# Altium schematic symbol library MEBot.SchLib: 69 symbols
Pins are listed as number, name and electrical type; pins without a type are passive.

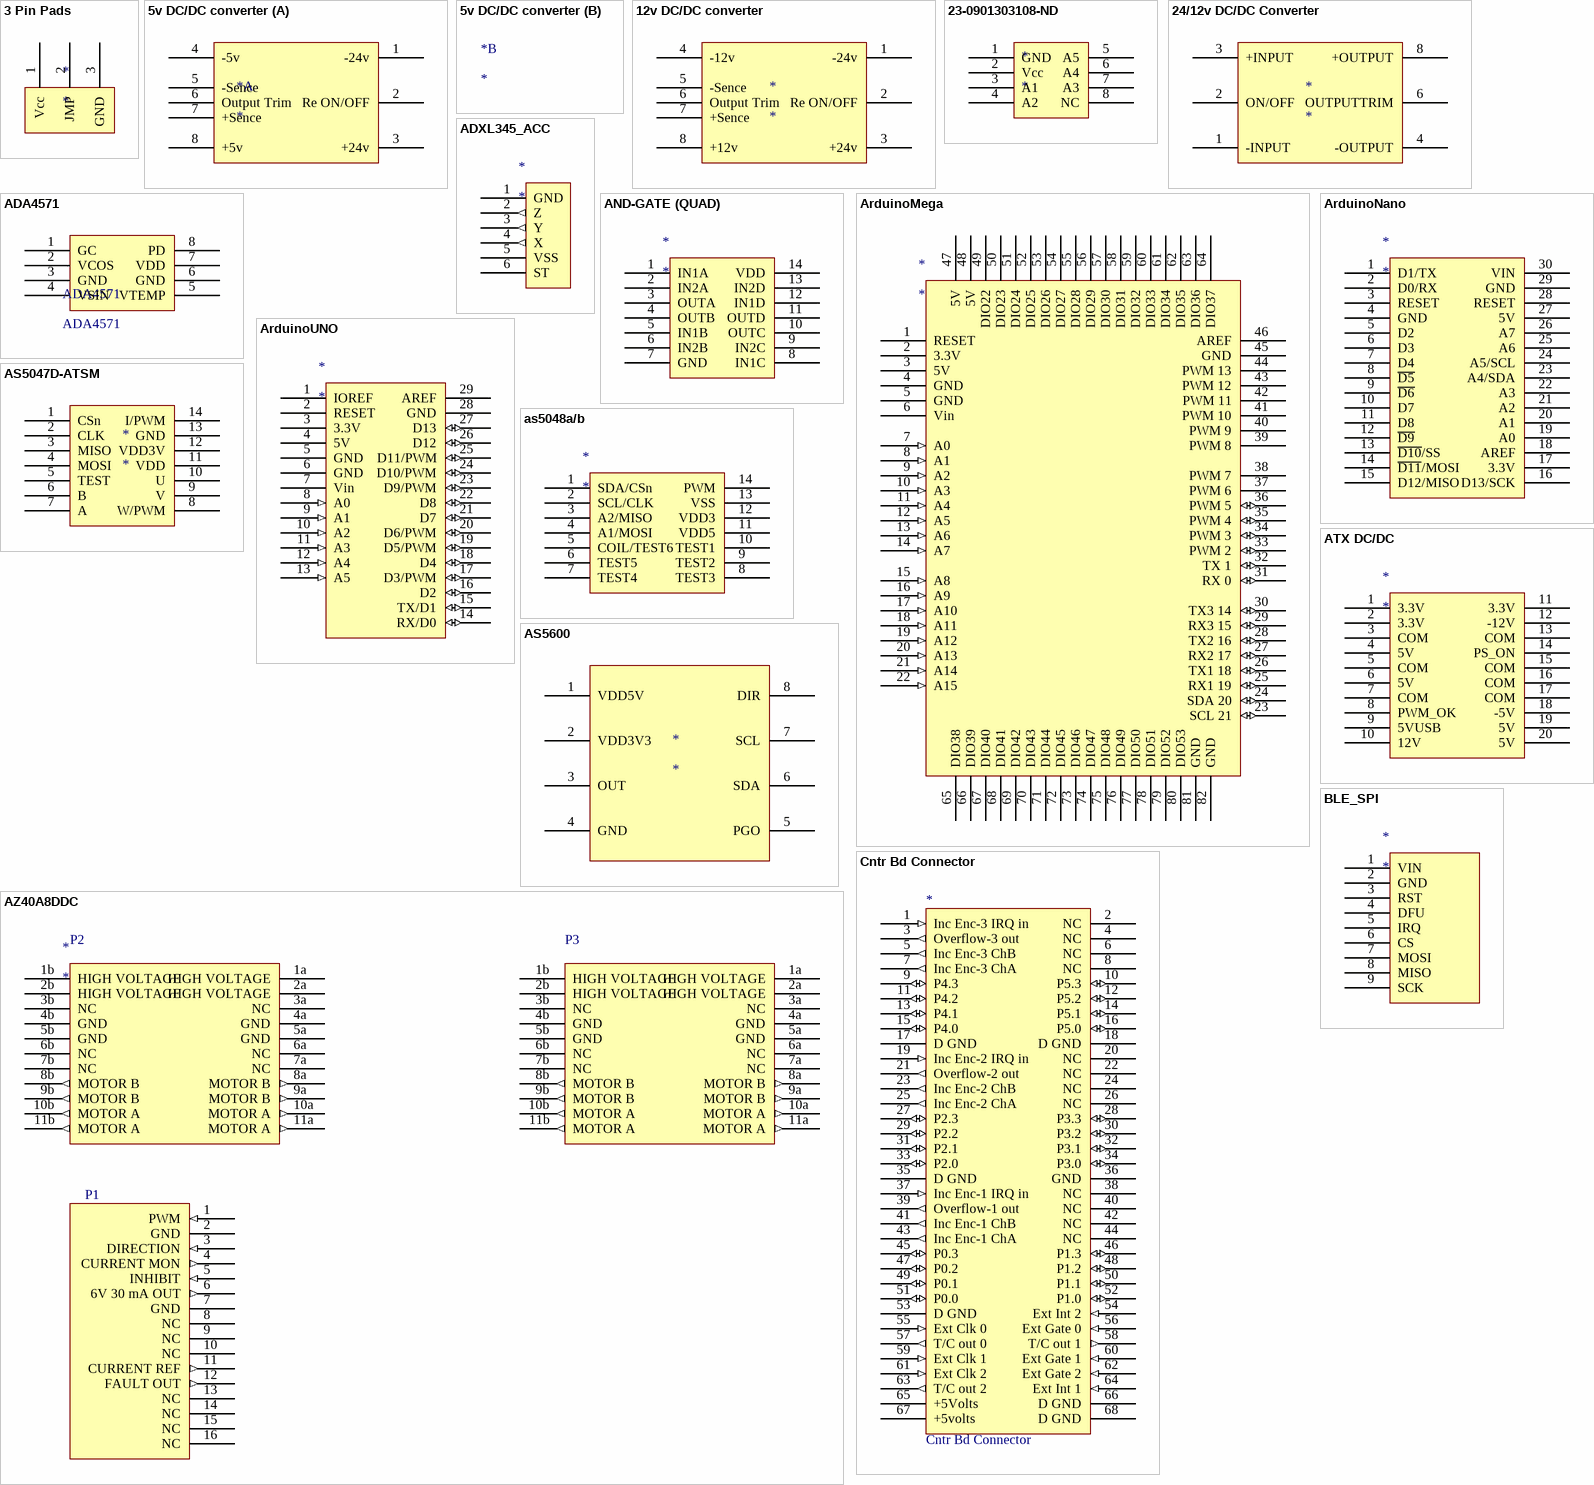
[diagram p0: symbols 3 Pin Pads to Cntr Bd Connector]

## 3 Pin Pads
designator *
footprint 3 Pin Pad (3 Pads for AS5600)
pins: 1 Vcc, 2 JMP, 3 GND

## 5v DC/DC converter
designator *
footprint TLP2270 (SOIC, 8-Leads, Body 5.85x7.50mm, Pitch 1.27mm, IPC Medium Density)
part A pins: 1 -24v, 2 Re ON/OFF, 3 +24v, 4 -5v, 5 -Sence, 6 Output Trim, 7 +Sence, 8 +5v
1 alternate drawing of the same symbol

## 12v DC/DC converter
designator *
footprint 12v DC/DC (Datel 580-ULQ12-8-D24P-C DC/DC converter)
pins: 1 -24v, 2 Re ON/OFF, 3 +24v, 4 -12v, 5 -Sence, 6 Output Trim, 7 +Sence, 8 +12v

## 23-0901303108-ND
designator *
footprint 23-0901303108-ND (STRAIGHT PIN HEADER 8P RA)
pins: 1 GND, 2 Vcc, 3 A1, 4 A2, 5 A5, 6 A4, 7 A3, 8 NC

## 24/12v DC/DC Converter
designator *
footprint 12/24v DC/DC (ULE-12/4.2-D24P-C DC/DC converter)
pins: 1 -INPUT, 2 ON/OFF, 3 +INPUT, 4 -OUTPUT, 6 OUTPUTTRIM, 8 +OUTPUT

## ADA4571
designator ADA4571
footprint ADA4571 (SOIC, 8-Leads, Body 4.90x3.90mm, Pitch 1.27mm, IPC Medium Density)
pins: 1 GC, 2 VCOS, 3 GND, 4 VSIN, 5 VTEMP, 6 GND, 7 VDD, 8 PD

## ADXL345_ACC
designator *
footprint Accelerometer (ADXKL345)
pins: 1 GND (power), 2 Z (out), 3 Y (out), 4 X (out), 5 VSS (power), 6 ST

## AND-GATE (QUAD)
designator *
footprint MC14081- AND
pins: 1 IN1A, 2 IN2A, 3 OUTA, 4 OUTB, 5 IN1B, 6 IN2B, 7 GND, 8 IN1C, 9 IN2C, 10 OUTC, 11 OUTD, 12 IN1D, 13 IN2D, 14 VDD

## ArduinoMega
designator *
footprint ArduinoMEGA
pins: 1 RESET, 2 3.3V (power), 3 5V (power), 4 GND (power), 5 GND (power), 6 Vin (power), 7 A0 (in), 8 A1 (in), 9 A2 (in), 10 A3 (in), 11 A4 (in), 12 A5 (in), 13 A6 (in), 14 A7 (in), 15 A8 (in), 16 A9 (in), 17 A10 (in), 18 A11 (in), 19 A12 (in), 20 A13 (in), 21 A14 (in), 22 A15 (in), 23 SCL 21 (io), 24 SDA 20 (io), 25 RX1 19 (io), 26 TX1 18 (io), 27 RX2 17 (io), 28 TX2 16 (io), 29 RX3 15 (io), 30 TX3 14 (io), 31 RX 0 (io), 32 TX 1 (io), 33 PWM 2 (io), 34 PWM 3 (io), 35 PWM 4 (io), 36 PWM 5 (io), 37 PWM 6 (power), 38 PWM 7 (oe), 39 PWM 8 (oe), 40 PWM 9 (oe), 41 PWM 10 (oe), 42 PWM 11 (oe), 43 PWM 12 (oe), 44 PWM 13 (oe), 45 GND (oe), 46 AREF (oe), 47 5V (power), 48 5V (power), 49 DIO22, 50 DIO23, 51 DIO24, 52 DIO25, 53 DIO26, 54 DIO27, 55 DIO28, 56 DIO29, 57 DIO30, 58 DIO31, 59 DIO32, 60 DIO33, 61 DIO34, 62 DIO35, 63 DIO36, 64 DIO37, 65 DIO38, 66 DIO39, 67 DIO40, 68 DIO41, 69 DIO42, 70 DIO43, 71 DIO44, 72 DIO45, 73 DIO46, 74 DIO47, 75 DIO48, 76 DIO49, 77 DIO50, 78 DIO51, 79 DIO52, 80 DIO53, 81 GND, 82 GND

## ArduinoNano
designator *
footprint ARDUINO NANO
pins: 1 D1/TX, 2 D0/RX, 3 RESET, 4 GND, 5 D2, 6 D3, 7 D4, 8 ~{D5}, 9 ~{D6}, 10 D7, 11 D8, 12 ~{D9}, 13 ~{D10}/SS, 14 ~{D11}/MOSI, 15 D12/MISO, 16 D13/SCK, 17 3.3V, 18 AREF, 19 A0, 20 A1, 21 A2, 22 A3, 23 A4/SDA, 24 A5/SCL, 25 A6, 26 A7, 27 5V, 28 RESET, 29 GND, 30 VIN

## ArduinoUNO
designator *
footprint ArduinoUNO
pins: 1 IOREF, 2 RESET, 3 3.3V (power), 4 5V (power), 5 GND (power), 6 GND (power), 7 Vin (power), 8 A0 (in), 9 A1 (in), 10 A2 (in), 11 A3 (in), 12 A4 (in), 13 A5 (in), 14 RX/D0 (io), 15 TX/D1 (io), 16 D2 (io), 17 D3/PWM (io), 18 D4 (io), 19 D5/PWM (io), 20 D6/PWM (io), 21 D7 (io), 22 D8 (io), 23 D9/PWM (io), 24 D10/PWM (io), 25 D11/PWM (io), 26 D12 (io), 27 D13 (io), 28 GND (power), 29 AREF (oe)

## AS5047D-ATSM
designator *
IC ENCODER ROTARY 14TSSOP; Manufacturer: ams; Manufacturer Part Number: AS5047D-ATSM; Encoder Type: Magnetic; Detent: No; Output Type: PWM; Supplier 1: Digi-Key; RoHS: Yes; Category: Magnetic Sensors; Stock 1: 6806; Pricing 1: 1=7.70000, 5=6.75000, 10=6.07500, 25=5.40000, 50=4.99500, 100=4.32000 (USD); Mount: Surface Mount; Built in Switch: No; Termination: SMD/SMT; Lead Free: Lead Free; ComponentLink1URL: https://ams.com/documents/20143/36005/AS5047D_DS000394_2-00.pdf?src-supplier=Digi-Key; ComponentLink1Description: https://ams.com/documents/20143/36005/AS5047D_DS000394_2-00.pdf?src-supplier=Digi-Key; ComponentLink2URL: http://ams.com/eng/content/download/595083/1609657/320155?src-supplier=Digi-Key; ComponentLink2Description: http://ams.com/eng/content/download/595083/1609657/320155?src-supplier=Digi-Key
footprint AS5047 (TSOP, 14-Leads, Body 5.00x4.40mm, Pitch 0.65mm, IPC Medium Density)
pins: 1 CSn, 2 CLK, 3 MISO, 4 MOSI, 5 TEST, 6 B, 7 A, 8 W/PWM, 9 V, 10 U, 11 VDD, 12 VDD3V, 13 GND, 14 I/PWM

## as5048a/b
designator *
footprint AS5048B (TSOP, 14-Leads, Body 5.1x4.5mm (max), Pitch 0.65mm, IPC Medium Density)
pins: 1 SDA/CSn, 2 SCL/CLK, 3 A2/MISO, 4 A1/MOSI, 5 COIL/TEST6, 6 TEST5, 7 TEST4, 8 TEST3, 9 TEST2, 10 TEST1, 11 VDD5, 12 VDD3, 13 VSS, 14 PWM

## AS5600
designator *
footprint AS5600 (SOIC, 8-Leads, Body 4.90x3.90mm, Pitch 1.27mm, IPC Medium Density)
pins: 1 VDD5V, 2 VDD3V3, 3 OUT, 4 GND, 5 PGO, 6 SDA, 7 SCL, 8 DIR

## ATX DC/DC
designator *
footprint ATX DC/DC
pins: 1 3.3V, 2 3.3V, 3 COM, 4 5V, 5 COM, 6 5V, 7 COM, 8 PWM_OK, 9 5VUSB, 10 12V, 11 3.3V, 12 -12V, 13 COM, 14 PS_ON, 15 COM, 16 COM, 17 COM, 18 -5V, 19 5V, 20 5V

## AZ40A8DDC
designator *
footprint AZ40A8DDC (Pitch 2.54 mm)
pins: 1 PWM (in), 1a HIGH VOLTAGE (power), 1a HIGH VOLTAGE (power), 1b HIGH VOLTAGE (power), 1b HIGH VOLTAGE (power), 2 GND (power), 2a HIGH VOLTAGE, 2a HIGH VOLTAGE, 2b HIGH VOLTAGE (power), 2b HIGH VOLTAGE (power), 3 DIRECTION (in), 3a NC (oc), 3a NC (oc), 3b NC (oc), 3b NC (oc), 4 CURRENT MON (out), 4a GND, 4a GND, 4b GND (power), 4b GND (power), 5 INHIBIT (in), 5a GND (power), 5a GND (power), 5b GND (power), 5b GND (power), 6 6V 30 mA OUT (out), 6a NC (oc), 6a NC (oc), 6b NC (oc), 6b NC (oc), 7 GND (power), 7a NC (oc), 7a NC (oc), 7b NC (oc), 7b NC (oc), 8 NC (oc), 8a MOTOR B (out), 8a MOTOR B (out), 8b MOTOR B (out), 8b MOTOR B (out), 9 NC (oc), 9a MOTOR B (out), 9a MOTOR B (out), 9b MOTOR B (out), 9b MOTOR B (out), 10 NC (oc), 10a MOTOR A (out), 10a MOTOR A (out), 10b MOTOR A (out), 10b MOTOR A (out), 11 CURRENT REF (out), 11a MOTOR A (out), 11a MOTOR A (out), 11b MOTOR A (out), 11b MOTOR A (out), 12 FAULT OUT (out), 13 NC (oc), 14 NC (oc), 15 NC (oc), 16 NC (oc)
text: P2; P3; P1

## BLE_SPI
designator *
footprint Bluefruit SPI (Digital part # 1528-1375-ND)
pins: 1 VIN, 2 GND, 3 RST, 4 DFU, 5 IRQ, 6 CS, 7 MOSI, 8 MISO, 9 SCK

## Cntr Bd Connector
designator *
footprint SMT Header 68P -THRUHOLE (Box Header, SMT 68 Leads; Row Spacing 5.59 mm; Pitch 1.27 mm)
pins: 1 Inc Enc-3 IRQ in (in), 2 NC, 3 Overflow-3 out (out), 4 NC, 5 Inc Enc-3 ChB (out), 6 NC, 7 Inc Enc-3 ChA (out), 8 NC, 9 P4.3 (io), 10 P5.3 (io), 11 P4.2 (io), 12 P5.2 (io), 13 P4.1 (io), 14 P5.1 (io), 15 P4.0 (io), 16 P5.0 (io), 17 D GND, 18 D GND, 19 Inc Enc-2 IRQ in (in), 20 NC, 21 Overflow-2 out (out), 22 NC, 23 Inc Enc-2 ChB (out), 24 NC, 25 Inc Enc-2 ChA (out), 26 NC, 27 P2.3 (io), 28 P3.3 (io), 29 P2.2 (io), 30 P3.2 (io), 31 P2.1 (io), 32 P3.1 (io), 33 P2.0 (io), 34 P3.0 (io), 35 D GND, 36 GND, 37 Inc Enc-1 IRQ in (in), 38 NC, 39 Overflow-1 out (out), 40 NC, 41 Inc Enc-1 ChB (out), 42 NC, 43 Inc Enc-1 ChA (out), 44 NC, 45 P0.3 (io), 46 P1.3 (io), 47 P0.2 (io), 48 P1.2 (io), 49 P0.1 (io), 50 P1.1 (io), 51 P0.0 (io), 52 P1.0 (io), 53 D GND, 54 Ext Int 2 (in), 55 Ext Clk 0 (in), 56 Ext Gate 0 (in), 57 T/C out 0 (out), 58 T/C out 1 (out), 59 Ext Clk 1 (in), 60 Ext Gate 1 (in), 61 Ext Clk 2 (in), 62 Ext Gate 2 (in), 63 T/C out 2 (out), 64 Ext Int 1 (in), 65 +5Volts, 66 D GND, 67 +5volts (power), 68 D GND

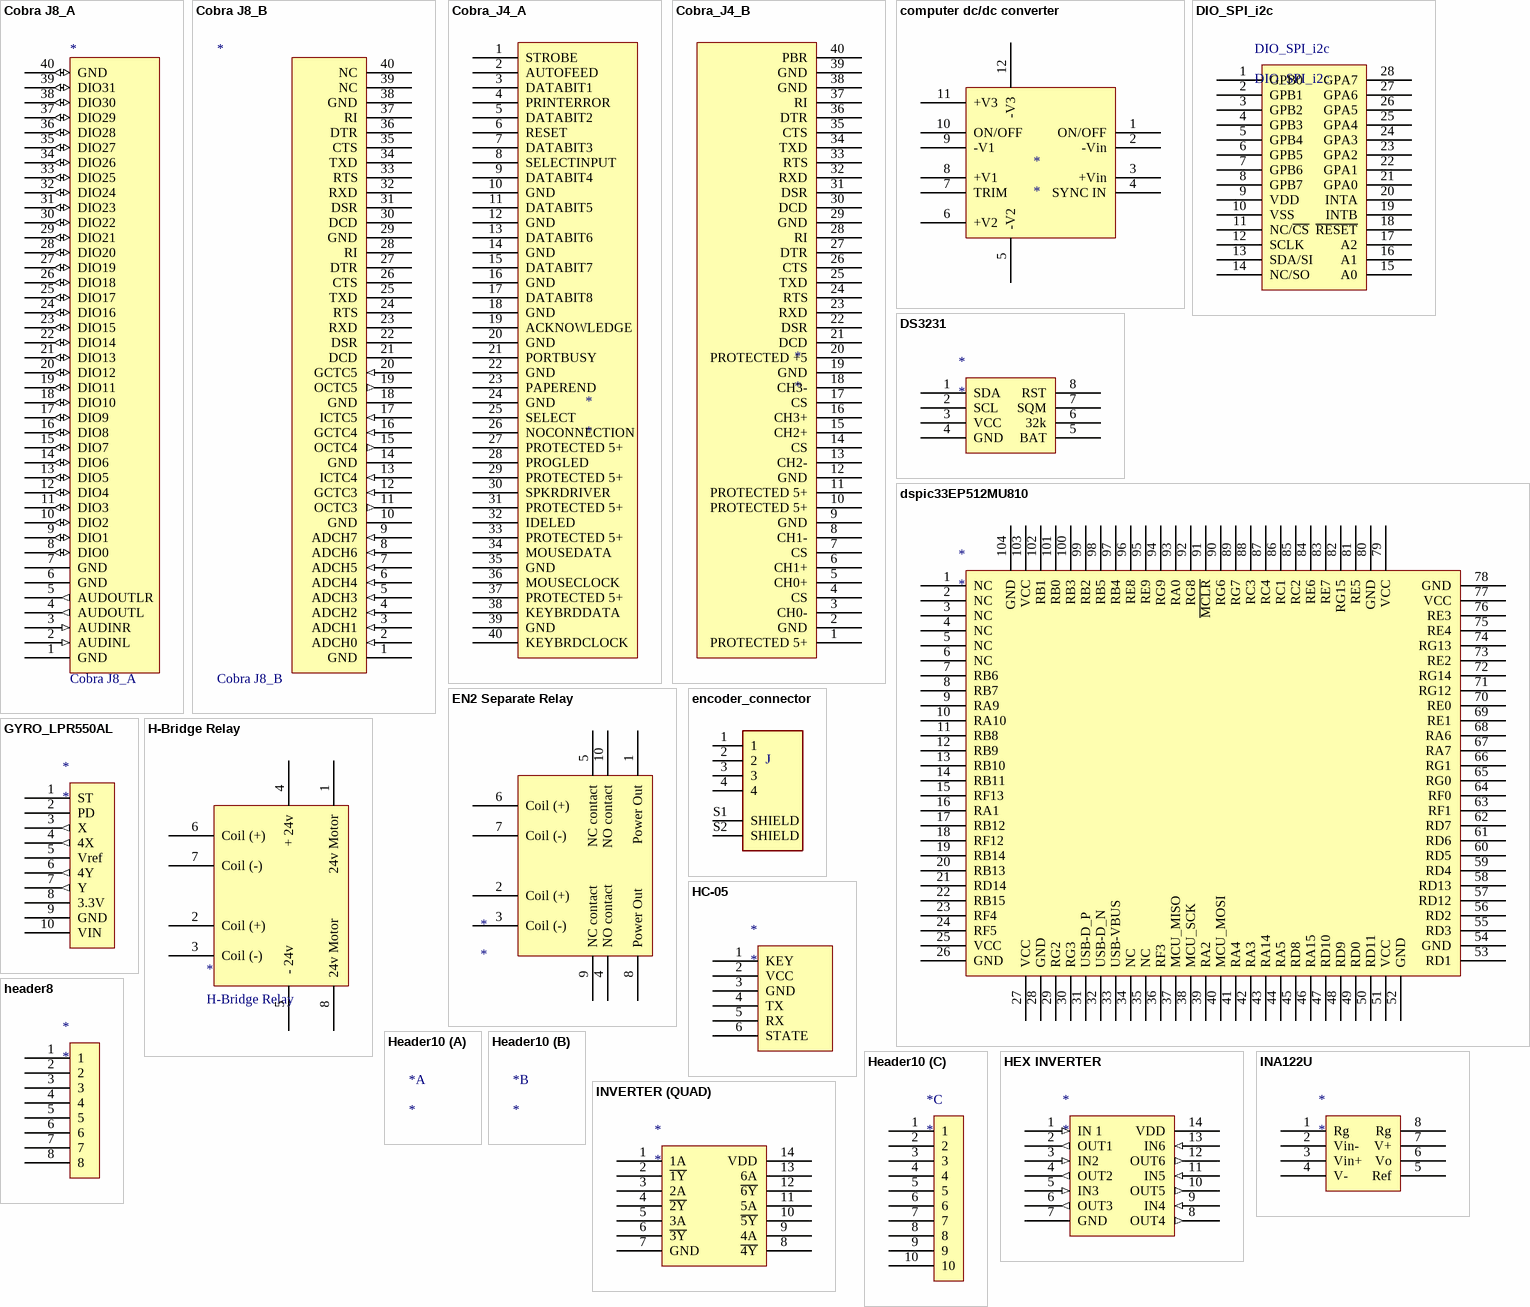
[diagram p1: symbols Cobra J8_A to INVERTER (QUAD)]

## Cobra J8_A
designator *
footprint SMT Header 40P (Box Header, SMT 40 Leads; Row Spacing 6.86 mm; Pitch 2.54 mm)
pins: 1 GND, 2 AUDINL (in), 3 AUDINR (in), 4 AUDOUTL (out), 5 AUDOUTLR (out), 6 GND, 7 GND, 8 DIO0 (io), 9 DIO1 (io), 10 DIO2 (io), 11 DIO3 (io), 12 DIO4 (io), 13 DIO5 (io), 14 DIO6 (io), 15 DIO7 (io), 16 DIO8 (io), 17 DIO9 (io), 18 DIO10 (io), 19 DIO11 (io), 20 DIO12 (io), 21 DIO13 (io), 22 DIO14 (io), 23 DIO15 (io), 24 DIO16 (io), 25 DIO17 (io), 26 DIO18 (io), 27 DIO19 (io), 28 DIO20 (io), 29 DIO21 (io), 30 DIO22 (io), 31 DIO23 (io), 32 DIO24 (io), 33 DIO25 (io), 34 DIO26 (io), 35 DIO27 (io), 36 DIO28 (io), 37 DIO29 (io), 38 DIO30 (io), 39 DIO31 (io), 40 GND (io)

## Cobra J8_B
designator *
footprint SMT Header 40P (Box Header, SMT 40 Leads; Row Spacing 6.86 mm; Pitch 2.54 mm)
pins: 1 GND, 2 ADCH0 (in), 3 ADCH1 (in), 4 ADCH2 (in), 5 ADCH3 (in), 6 ADCH4 (in), 7 ADCH5 (in), 8 ADCH6 (in), 9 ADCH7 (in), 10 GND, 11 OCTC3 (out), 12 GCTC3 (in), 13 ICTC4 (in), 14 GND, 15 OCTC4 (out), 16 GCTC4 (in), 17 ICTC5 (in), 18 GND, 19 OCTC5 (out), 20 GCTC5 (in), 21 DCD, 22 DSR, 23 RXD, 24 RTS, 25 TXD, 26 CTS, 27 DTR, 28 RI, 29 GND, 30 DCD, 31 DSR, 32 RXD, 33 RTS, 34 TXD, 35 CTS, 36 DTR, 37 RI, 38 GND, 39 NC, 40 NC

## Cobra_J4_A
designator *
footprint SMT Header 40P (Box Header, SMT 40 Leads; Row Spacing 6.86 mm; Pitch 2.54 mm)
pins: 1 STROBE, 2 AUTOFEED, 3 DATABIT1, 4 PRINTERROR, 5 DATABIT2, 6 RESET, 7 DATABIT3, 8 SELECTINPUT, 9 DATABIT4, 10 GND, 11 DATABIT5, 12 GND, 13 DATABIT6, 14 GND, 15 DATABIT7, 16 GND, 17 DATABIT8, 18 GND, 19 ACKNOWLEDGE, 20 GND, 21 PORTBUSY, 22 GND, 23 PAPEREND, 24 GND, 25 SELECT, 26 NOCONNECTION, 27 PROTECTED 5+, 28 PROGLED, 29 PROTECTED 5+, 30 SPKRDRIVER, 31 PROTECTED 5+, 32 IDELED, 33 PROTECTED 5+, 34 MOUSEDATA, 35 GND, 36 MOUSECLOCK, 37 PROTECTED 5+, 38 KEYBRDDATA, 39 GND, 40 KEYBRDCLOCK

## Cobra_J4_B
designator *
footprint SMT Header 40P (Box Header, SMT 40 Leads; Row Spacing 6.86 mm; Pitch 2.54 mm)
pins: 1 PROTECTED 5+, 2 GND, 3 CH0-, 4 CS, 5 CH0+, 6 CH1+, 7 CS, 8 CH1-, 9 GND, 10 PROTECTED 5+, 11 PROTECTED 5+, 12 GND, 13 CH2-, 14 CS, 15 CH2+, 16 CH3+, 17 CS, 18 CH3-, 19 GND, 20 PROTECTED +5, 21 DCD, 22 DSR, 23 RXD, 24 RTS, 25 TXD, 26 CTS, 27 DTR, 28 RI, 29 GND, 30 DCD, 31 DSR, 32 RXD, 33 RTS, 34 TXD, 35 CTS, 36 DTR, 37 RI, 38 GND, 39 GND, 40 PBR

## computer dc/dc converter
designator *
footprint Computer DC/DC convertor
pins: 1 ON/OFF, 2 -Vin, 3 +Vin, 4 SYNC IN, 5 -V2, 6 +V2, 7 TRIM, 8 +V1, 9 -V1, 10 ON/OFF, 11 +V3, 12 -V3

## DIO_SPI_i2c
designator DIO_SPI_i2c
MCP230/s17
footprint MCP23017
footprint MCP23017-smd (SOIC, 28-Leads, Body 17.9x7.5mm (max), Pitch 1.27mm, IPC Medium Density)
pins: 1 GPB0, 2 GPB1, 3 GPB2, 4 GPB3, 5 GPB4, 6 GPB5, 7 GPB6, 8 GPB7, 9 VDD, 10 VSS, 11 NC/~{CS}, 12 SCLK, 13 SDA/SI, 14 NC/SO, 15 A0, 16 A1, 17 A2, 18 ~{RESET}, 19 INTB, 20 INTA, 21 GPA0, 22 GPA1, 23 GPA2, 24 GPA3, 25 GPA4, 26 GPA5, 27 GPA6, 28 GPA7

## DS3231
designator *
footprint DS3231 (ChibbirDot v2.1)
pins: 1 SDA, 2 SCL, 3 VCC, 4 GND, 5 BAT, 6 32k, 7 SQM, 8 RST

## dspic33EP512MU810
designator *
footprint dspic33EP512MU810 (EasyPICv7.0 MCU CARD1)
pins: 1 NC, 2 NC (power), 3 NC, 4 NC, 5 NC, 6 NC, 7 RB6, 8 RB7, 9 RA9, 10 RA10, 11 RB8, 12 RB9, 13 RB10, 14 RB11, 15 RF13 (power), 16 RA1 (power), 17 RB12, 18 RF12, 19 RB14, 20 RB13, 21 RD14, 22 RB15, 23 RF4, 24 RF5, 25 VCC, 26 GND, 27 VCC, 28 GND, 29 RG2, 30 RG3, 31 USB-D_P, 32 USB-D_N, 33 USB-VBUS, 34 NC, 35 NC, 36 RF3, 37 MCU_MISO, 38 MCU_SCK, 39 RA2, 40 MCU_MOSI, 41 RA4, 42 RA3, 43 RA14, 44 RA5, 45 RD8, 46 RA15, 47 RD10, 48 RD9, 49 RD0, 50 RD11, 51 VCC, 52 GND, 53 RD1, 54 GND, 55 RD3, 56 RD2, 57 RD12, 58 RD13, 59 RD4, 60 RD5, 61 RD6, 62 RD7, 63 RF1, 64 RF0, 65 RG0, 66 RG1, 67 RA7, 68 RA6, 69 RE1, 70 RE0, 71 RG12, 72 RG14, 73 RE2, 74 RG13, 75 RE4, 76 RE3, 77 VCC, 78 GND, 79 VCC, 80 GND, 81 RE5, 82 RG15, 83 RE7, 84 RE6, 85 RC2, 86 RC1, 87 RC4, 88 RC3, 89 RG7, 90 RG6, 91 ~{MCLR}, 92 RG8, 93 RA0, 94 RG9, 95 RE9, 96 RE8, 97 RB4, 98 RB5, 99 RB2, 100 RB3, 101 RB0, 102 RB1, 103 VCC, 104 GND

## EN2 Separate Relay
designator *
footprint EN2-1N1ST (NEC Automotive Twin Relay (Separate))
pins: 1 Power Out, 2 Coil (+), 3 Coil (-), 4 NO contact, 5 NC contact, 6 Coil (+), 7 Coil (-), 8 Power Out, 9 NC contact, 10 NO contact

## encoder_connector
designator J  (value not drawn)
Picoblade Connector, 4 Circuit Single Row, Right Angle Surface Mount SMT PCB; MP: 0532610471; MF: Molex; Digi-Key_Purchase_URL: https://www.digikey.com/product-detail/en/molex/0532610471/WM7622CT-ND/699109?utm_source=snapeda&utm_medium=aggregator&utm_campaign=symbol; Package: None; Digi-Key_Part_Number: WM7622CT-ND; Value: *; SnapEDA_Link: https://www.snapeda.com/parts/0532610471/Molex/view-part/542805/?ref=snap
footprint encoder_connector (WM7622CT)
pins: 1, 2, 3, 4, S1 SHIELD, S2 SHIELD

## GYRO_LPR550AL
designator *
footprint GYRO (LPR550AL)
pins: 1 ST, 2 PD, 3 X (out), 4 4X (out), 5 Vref, 6 4Y (out), 7 Y (out), 8 3.3V, 9 GND (power), 10 VIN (power)

## H-Bridge Relay
designator *
footprint EN2-B1N1S (NEC Automotive Twin Relay)
pins: 1 24v Motor, 2 Coil (+), 3 Coil (-), 4  + 24v, 5  - 24v, 6 Coil (+), 7 Coil (-), 8 24v Motor

## HC-05
designator *
footprint HC-05 (Bluetooth module)
pins: 1 KEY, 2 VCC, 3 GND, 4 TX, 5 RX, 6 STATE

## header8
designator *
footprint Straight Pin Header 8P RA (2.5mm pitch header for full lock & discrete wire connection)
pins: 1, 2, 3, 4, 5, 6, 7, 8

## Header10
designator *
footprint Straight Pin Header 10P (2.5mm pitch header for full lock & discrete wire connection)
part C pins: 1, 2, 3, 4, 5, 6, 7, 8, 9, 10

## HEX INVERTER
designator *
footprint hex inverter (MC14011BCP)
pins: 1 IN 1 (in), 2 OUT1 (out), 3 IN2 (in), 4 OUT2 (out), 5 IN3 (in), 6 OUT3 (out), 7 GND (power), 8 OUT4 (out), 9 IN4 (in), 10 OUT5 (out), 11 IN5 (in), 12 OUT6 (out), 13 IN6 (in), 14 VDD (power)

## INA122U
designator *
footprint INA122U (SOIC, 8-Leads, Body 5.0x4.0mm (max), Pitch 1.27mm, IPC Medium Density)
pins: 1 Rg, 2 Vin-, 3 Vin+, 4 V-, 5 Ref, 6 Vo, 7 V+, 8 Rg

## INVERTER (QUAD)
designator *
footprint CD74HCT04-INVERTER
pins: 1 1A, 2 ~{1Y}, 3 2A, 4 ~{2Y}, 5 3A, 6 ~{3Y}, 7 GND, 8 ~{4Y}, 9 4A, 10 ~{5Y}, 11 5A, 12 ~{6Y}, 13 6A, 14 VDD

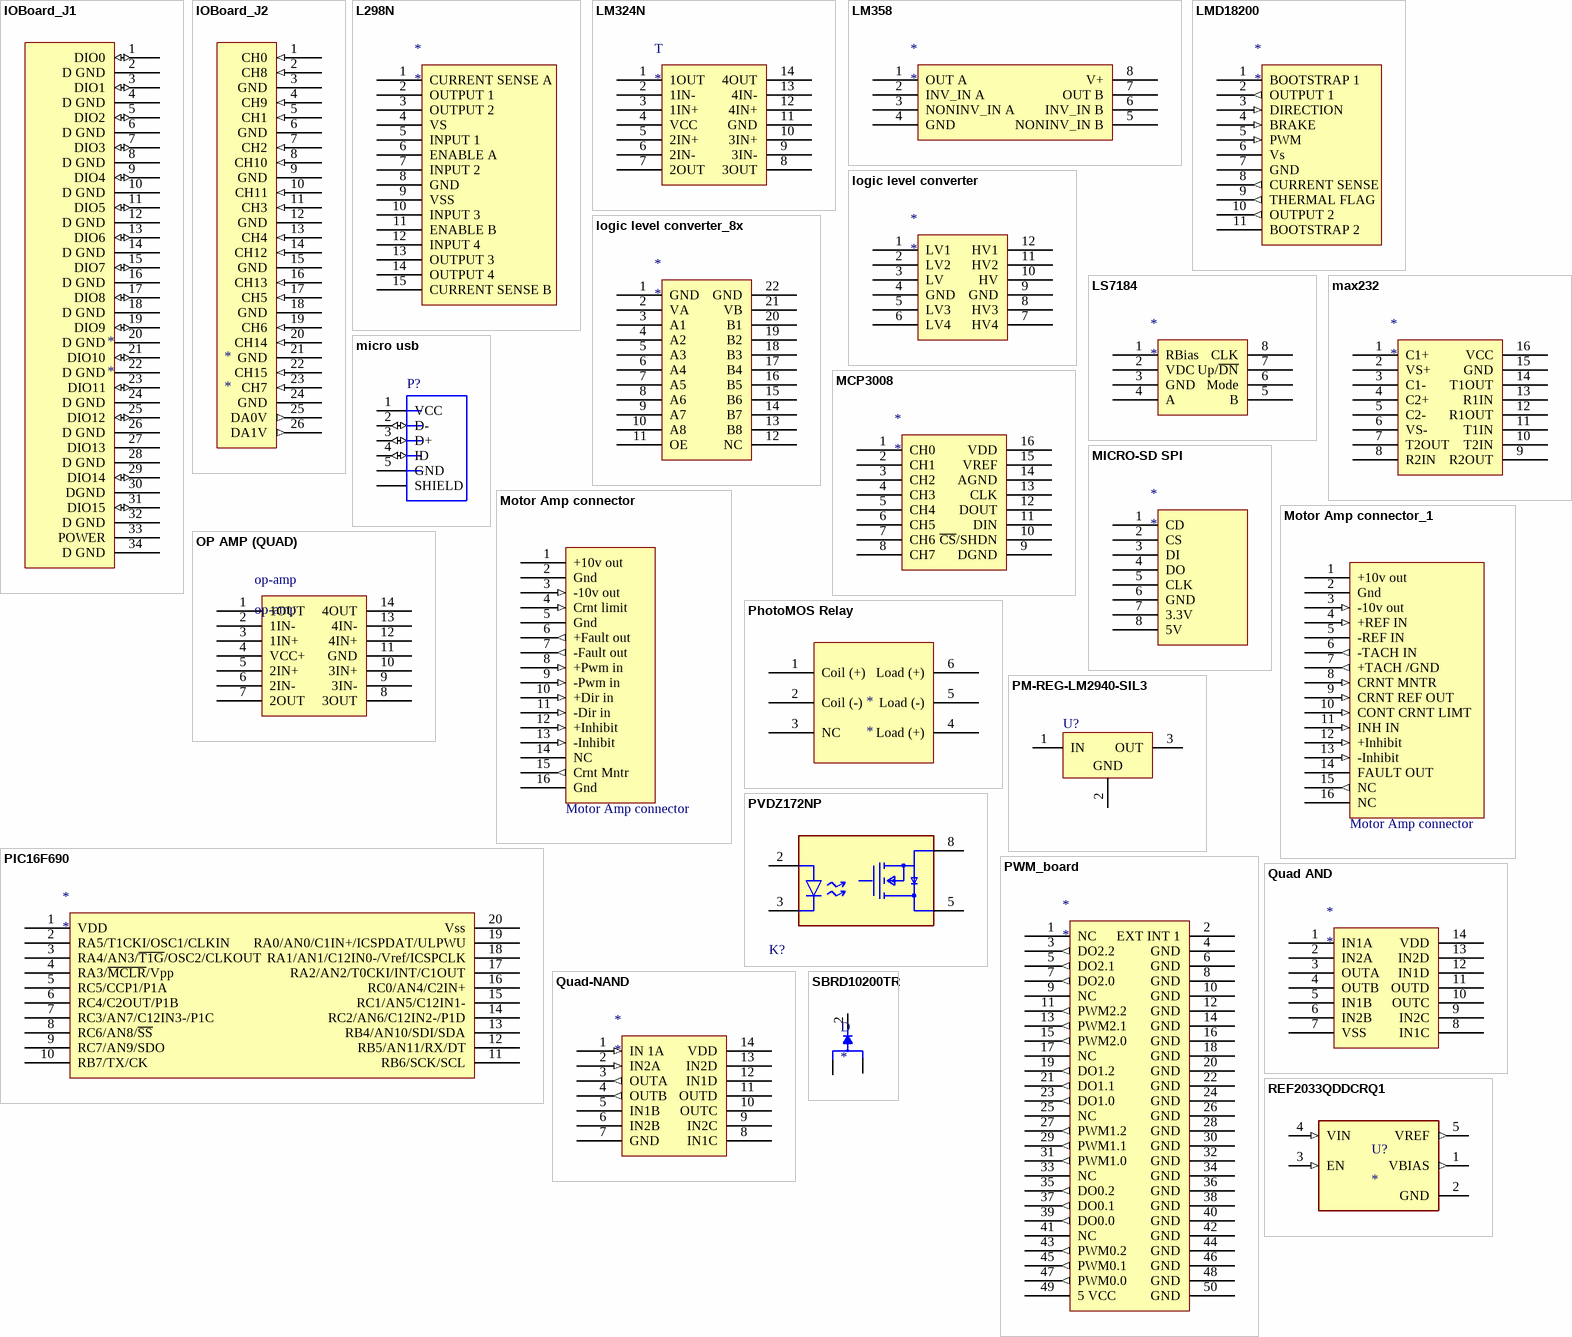
[diagram p2: symbols IOBoard_J1 to SBRD10200TR]

## IOBoard_J1
designator *
footprint SMT Header 34P (Box Header, SMT 34 Leads; Row Spacing 6.86 mm; Pitch 2.54 mm)
pins: 1 DIO0 (io), 2 D GND, 3 DIO1 (io), 4 D GND, 5 DIO2 (io), 6 D GND, 7 DIO3 (io), 8 D GND, 9 DIO4 (io), 10 D GND, 11 DIO5 (io), 12 D GND, 13 DIO6 (io), 14 D GND, 15 DIO7 (io), 16 D GND, 17 DIO8 (io), 18 D GND, 19 DIO9 (io), 20 D GND, 21 DIO10 (io), 22 D GND, 23 DIO11 (io), 24 D GND, 25 DIO12 (io), 26 D GND, 27 DIO13, 28 D GND, 29 DIO14 (io), 30 DGND, 31 DIO15 (io), 32 D GND, 33 POWER (power), 34 D GND

## IOBoard_J2
designator *
footprint SMT Header 26P (Box Header, SMT 26 Leads; Row Spacing 6.86 mm; Pitch 2.54 mm)
pins: 1 CH0 (in), 2 CH8 (in), 3 GND, 4 CH9 (in), 5 CH1 (in), 6 GND, 7 CH2 (in), 8 CH10 (in), 9 GND, 10 CH11 (in), 11 CH3 (in), 12 GND, 13 CH4 (in), 14 CH12 (in), 15 GND, 16 CH13 (in), 17 CH5 (in), 18 GND, 19 CH6 (in), 20 CH14 (in), 21 GND, 22 CH15 (in), 23 CH7 (in), 24 GND, 25 DA0V (out), 26 DA1V (out)

## L298N
designator *
footprint L298N
footprint L298N
pins: 1 CURRENT SENSE A, 2 OUTPUT 1, 3 OUTPUT 2, 4 VS, 5 INPUT 1, 6 ENABLE A, 7 INPUT 2, 8 GND, 9 VSS, 10 INPUT 3, 11 ENABLE B, 12 INPUT 4, 13 OUTPUT 3, 14 OUTPUT 4, 15 CURRENT SENSE B

## LM324N
designator T
Operational Amplifier, Quad, 1 Mhz, 4, 0.5 V/ S, 1.5V To 16V, Dip, 14 Rohs Compliant: Yes; Manufacturer: Texas Instruments; Manufacturer Part Number: LM324N; Max Supply Voltage: 32V; Min Supply Voltage: 3V; Voltage Gain: 100dB; Slew Rate: 0.5V/µs; Gain Bandwidth Product: 1.2MHz; Input Bias Current: 45nA; Input Offset Voltage (Vos): 7mV; Operating Supply Current: 1.5mA; Output Current per Channel: 40mA; Common Mode Rejection Ratio: 80dB; Number of Channels: 4; Dual Supply Voltage: 9V; Supply Type: Single,Dual; Input Voltage Noise Density: 35nV/sqrt Hz; Supplier: Mouser; Supplier Part Number: 595-LM324N; RoHS: No; Category: Amplifiers - Op Amps, Buffer, Instrumentation; Stock: 68451; Pricing: 1=0.4, 10=0.33, 50=0.33, 100=0.26, 1000=0.169, 10000=0.139 (USD); Case/Package: PDIP; Pins: 14; Weight: 0.032734oz; Min Operating Temperature: 0°C; Max Operating Temperature: 70°C; Package Quantity: 25; Packaging: Rail/Tube; Operating Supply Voltage: 16V; Min Dual Supply Voltage: 1.5V; Max Dual Supply Voltage: 16V; Series: LM324; Technology: BIPOLAR; Power Supply Rejection Ratio (PSRR): 100dB; Gain: 100dB; Length: 19.3mm; Width: 6.35mm; Height: 4.57mm; Lead Free: Lead Free; RoHS Compliant: No
footprint lm348-OP AMP
footprint N0014A (DIP, 14-Leads, Body 19.7x6.6mm, Pitch 2.54mm)
pins: 1 1OUT, 2 1IN-, 3 1IN+, 4 VCC, 5 2IN+, 6 2IN-, 7 2OUT, 8 3OUT, 9 3IN-, 10 3IN+, 11 GND, 12 4IN+, 13 4IN-, 14 4OUT

## LM358
designator *
footprint LM358DT (SOIC, 8-Leads, Body 5.0x4.0mm (max), Pitch 1.27mm, IPC Medium Density)
pins: 1 OUT A, 2 INV_IN A, 3 NONINV_IN A, 4 GND, 5 NONINV_IN B, 6 INV_IN B, 7 OUT B, 8 V+

## LMD18200
designator *
footprint LMD18200 (H BRIDGE 24v3A)
pins: 1 BOOTSTRAP 1, 2 OUTPUT 1 (out), 3 DIRECTION (in), 4 BRAKE (in), 5 PWM (in), 6 Vs (power), 7 GND (power), 8 CURRENT SENSE (out), 9 THERMAL FLAG (out), 10 OUTPUT 2 (out), 11 BOOTSTRAP 2

## logic level converter
designator *
footprint Logic Inverter
pins: 1 LV1, 2 LV2, 3 LV, 4 GND, 5 LV3, 6 LV4, 7 HV4, 8 HV3, 9 GND, 10 HV, 11 HV2, 12 HV1

## logic level converter_8x
designator *
footprint Logic Inverter 8x (TXS01018E 8CHANNEL LEVEL SHIFTER)
pins: 1 GND, 2 VA, 3 A1, 4 A2, 5 A3, 6 A4, 7 A5, 8 A6, 9 A7, 10 A8, 11 OE, 12 NC, 13 B8, 14 B7, 15 B6, 16 B5, 17 B4, 18 B3, 19 B2, 20 B1, 21 VB, 22 GND

## LS7184
designator *
footprint LS7184
pins: 1 RBias, 2 VDC, 3 GND, 4 A, 5 B, 6 Mode, 7 Up/~{DN}, 8 CLK

## max232
designator *
footprint max232
pins: 1 C1+, 2 VS+, 3 C1-, 4 C2+, 5 C2-, 6 VS-, 7 T2OUT, 8 R2IN, 9 R2OUT, 10 T2IN, 11 T1IN, 12 R1OUT, 13 R1IN, 14 T1OUT, 15 GND, 16 VCC

## MCP3008
designator *
footprint MCP3008
pins: 1 CH0, 2 CH1, 3 CH2, 4 CH3, 5 CH4, 6 CH5, 7 CH6, 8 CH7, 9 DGND, 10 ~{CS}/SHDN, 11 DIN, 12 DOUT, 13 CLK, 14 AGND, 15 VREF, 16 VDD

## micro usb
designator P?, comment micro-usb  (value not drawn)
1554266-1; Product_Type: Connector; MF: TE Connectivity; Number_of_Positions: 5; Centerline_Pitch: .65 mm[.025 in]; SnapEDA_Link: https://www.snapeda.com/parts/1554266-1/TE%20Connectivity%20AMP%20Connectors/view-part/?ref=snap; TE_purchase_URL: https://www.te.com/usa-en/product-1554266-1.html?te_bu=Cor&te_type=disp&te_campaign=seda_glo_cor-seda-global-disp-prtnr-fy19-seda-model-bom-cta_sma-317_1&elqCampaignId=32493; Price: None; Availability: Unavailable; MP: 1554266-1; Package: None; Value: *
footprint usb micro (*TE_1554266-1_1554266-1(Primary))
pins: 1 VCC (power), 2 D- (io), 3 D+ (io), 4 ID (io), 5 GND (power), P1 SHIELD, P2 SHIELD, P3 SHIELD, P4 SHIELD

## MICRO-SD SPI
designator *
footprint Micro-SD SPI
pins: 1 CD, 2 CS, 3 DI, 4 DO, 5 CLK, 6 GND, 7 3.3V, 8 5V

## Motor Amp connector
designator ?
footprint SMT Header 16P (Box Header, SMT 16 Leads; Row Spacing 6.86 mm; Pitch 2.54 mm)
pins: 1 +10v out (power), 2 Gnd (power), 3 -10v out (in), 4 Crnt limit (in), 5 Gnd (power), 6 +Fault out (out), 7 -Fault out (out), 8 +Pwm in (in), 9 -Pwm in (in), 10 +Dir in (in), 11 -Dir in (in), 12 +Inhibit (in), 13 -Inhibit (in), 14 NC, 15 Crnt Mntr (out), 16 Gnd (power)

## Motor Amp connector_1
designator ?, comment Motor Amp connector
footprint SMT Header 16P (Box Header, SMT 16 Leads; Row Spacing 6.86 mm; Pitch 2.54 mm)
pins: 1 +10v out (power), 2 Gnd (power), 3 -10v out (in), 4 +REF IN (in), 5 -REF IN (power), 6 -TACH IN (out), 7 +TACH /GND (out), 8 CRNT MNTR (in), 9 CRNT REF OUT (in), 10 CONT CRNT LIMT (in), 11 INH IN (in), 12 +Inhibit (in), 13 -Inhibit (in), 14 FAULT OUT, 15 NC (out), 16 NC (power)

## OP AMP (QUAD)
designator op-amp, comment op-amp
footprint LM324 - op amp
pins: 1 1OUT, 2 1IN-, 3 1IN+, 4 VCC+, 5 2IN+, 6 2IN-, 7 2OUT, 8 3OUT, 9 3IN-, 10 3IN+, 11 GND (power), 12 4IN+, 13 4IN-, 14 4OUT

## PhotoMOS Relay
designator *
footprint SMT-DIP-6 (DIP 6; Row Spacing 8.3 mm; Pitch 2.54 mm)
pins: 1 Coil (+), 2 Coil (-), 3 NC, 4 Load (+), 5 Load (-), 6 Load (+)

## PIC16F690
designator *
footprint pic16F690
pins: 1 VDD, 2 RA5/T1CKI/OSC1/CLKIN, 3 RA4/AN3/~{T1G}/OSC2/CLKOUT, 4 RA3/~{MCLR}/Vpp, 5 RC5/CCP1/P1A, 6 RC4/C2OUT/P1B, 7 RC3/AN7/C12IN3-/P1C, 8 RC6/AN8/~{SS}, 9 RC7/AN9/SDO, 10 RB7/TX/CK, 11 RB6/SCK/SCL, 12 RB5/AN11/RX/DT, 13 RB4/AN10/SDI/SDA, 14 RC2/AN6/C12IN2-/P1D, 15 RC1/AN5/C12IN1-, 16 RC0/AN4/C2IN+, 17 RA2/AN2/T0CKI/INT/C1OUT, 18 RA1/AN1/C12IN0-/Vref/ICSPCLK, 19 RA0/AN0/C1IN+/ICSPDAT/ULPWU, 20 Vss

## PM-REG-LM2940-SIL3
designator U?
footprint NDE0003A (FM, 3-Leads, Body 10.7x4.7mm, Pitch 2.54mm)
pins: 1 IN (power), 2 GND (power), 3 OUT (power)

## PVDZ172NP
designator K?  (value not drawn)
footprint PVDZ172NSPBF (PVDZ Photovoltaic 1.5 A 60 V 0.25 Ohm SPST (1 Form A) Solid State Relay -MDIP-8)
pins: 2 A, 3 C, 5 DRAIN, 8 SOURCE

## PWM_board
designator *
pins: 1 NC (oc), 2 EXT INT 1, 3 DO2.2 (out), 4 GND, 5 DO2.1 (out), 6 GND, 7 DO2.0 (out), 8 GND, 9 NC, 10 GND, 11 PWM2.2 (out), 12 GND, 13 PWM2.1 (out), 14 GND, 15 PWM2.0 (out), 16 GND, 17 NC (oc), 18 GND, 19 DO1.2 (out), 20 GND (power), 21 DO1.1 (out), 22 GND (power), 23 DO1.0 (out), 24 GND (power), 25 NC (oc), 26 GND (power), 27 PWM1.2 (out), 28 GND (power), 29 PWM1.1 (out), 30 GND (power), 31 PWM1.0 (out), 32 GND (power), 33 NC (oc), 34 GND (power), 35 DO0.2 (out), 36 GND (power), 37 DO0.1 (out), 38 GND (power), 39 DO0.0 (out), 40 GND (power), 41 NC (oc), 42 GND (power), 43 PWM0.2 (out), 44 GND (power), 45 PWM0.1 (out), 46 GND (power), 47 PWM0.0 (out), 48 GND (power), 49 5 VCC (power), 50 GND (power)

## Quad AND
designator *
footprint QUAD AND GATES (SOIC, 14-Leads, Body 8.8x4.0mm (max), Pitch 1.27mm, IPC Medium Density)
pins: 1 IN1A, 2 IN2A, 3 OUTA, 4 OUTB, 5 IN1B, 6 IN2B, 7 VSS, 8 IN1C, 9 IN2C, 10 OUTC, 11 OUTD, 12 IN1D, 13 IN2D, 14 VDD

## Quad-NAND
designator *
footprint Quad-NAND
pins: 1 IN 1A (in), 2 IN2A (in), 3 OUTA (out), 4 OUTB (out), 5 IN1B, 6 IN2B, 7 GND, 8 IN1C, 9 IN2C, 10 OUTC, 11 OUTD, 12 IN1D, 13 IN2D, 14 VDD

## REF2033QDDCRQ1
designator U?
Automotive low-drift, low-power, series voltage reference; MF: Texas Instruments; MP: REF2033QDDCRQ1; SnapEDA_Link: https://www.snapeda.com/parts/REF2033QDDCRQ1/Texas+Instruments/view-part/?ref=snap; Package: SOT-23-THN-5 Texas Instruments; Value: *; Check_prices: https://www.snapeda.com/parts/REF2033QDDCRQ1/Texas+Instruments/view-part/?ref=eda
footprint SOT95P0280X110-5N
pins: 1 VBIAS (out), 2 GND (power), 3 EN (in), 4 VIN (in), 5 VREF (out)

## SBRD10200TR
designator D
Diode Schottky 200V 10A Surface Mount DPAK; MF: SMC Diode; MP: SBRD10200TR; Package: TO-252-3 SMC; Value: *; Price: None; SnapEDA_Link: https://www.snapeda.com/parts/SBRD10200TR/SMC%20Diode%20Solutions/view-part/702246/?ref=snap; Availability: Unavailable
footprint DPAK228P1005X240-4N
pins: 1, 2, 3

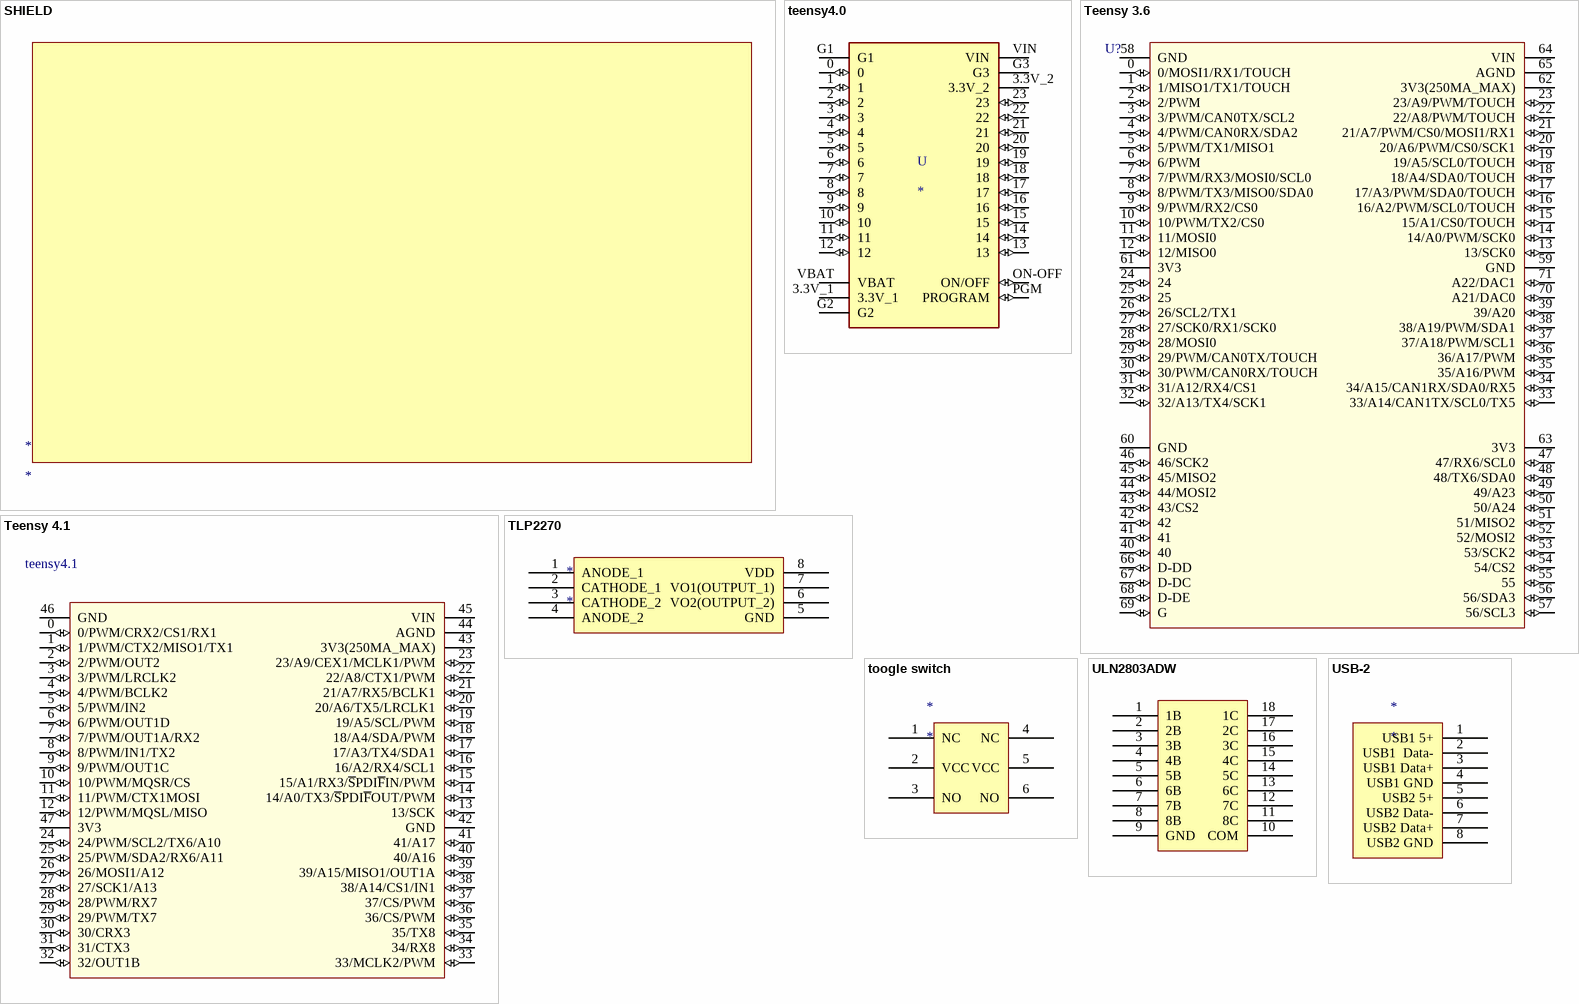
[diagram p3: symbols SHIELD to USB-2]

## SHIELD
designator *
footprint SHIELD (RF SHIELD 0.5" X 1" THROUGH HOLE)

## teensy4.0
designator U
RT1062 Teensy 4.0 i.MX ARMÂ® CortexÂ®-M7 MPU Embedded Evaluation Board; MF: SparkFun Electronics; MP: DEV-15583; Value: *; Package: None; Digi-Key_Part_Number: 1568-DEV-15583-ND; Digi-Key_Purchase_URL: https://www.digikey.com/product-detail/en/sparkfun-electronics/DEV-15583/1568-DEV-15583-ND/10384551?utm_source=snapeda&utm_medium=aggregator&utm_campaign=symbol; SnapEDA_Link: https://www.snapeda.com/parts/DEV-15583/SparkFun%20Electronics/view-part/4001229/?ref=snap
footprint DEV-15583
pins: 0 (io), 1 (io), 2 (io), 3 (io), 3.3V_1 (power), 3.3V_2 (power), 4 (io), 5 (io), 6 (io), 7 (io), 8 (io), 9 (io), 10 (io), 11 (io), 12 (io), 13 (io), 14 (io), 15 (io), 16 (io), 17 (io), 18 (io), 19 (io), 20 (io), 21 (io), 22 (io), 23 (io), G1 (power), G2 (power), G3 (power), ON-OFF ON/OFF (io), PGM PROGRAM (io), VBAT (power), VIN (power)

## Teensy 3.6
designator U?, comment DEV-14058  (value not drawn)
TEENSY 3.6 W/ HDRS K66 EVAL BRD; MF: SparkFun Electronics; Availability: Unavailable; Price: None; SnapEDA_Link: https://www.snapeda.com/parts/DEV-14058/SparkFun%20Electronics/view-part/?ref=snap; Package: None; MP: DEV-14058; Value: *
footprint DEV-14058 (TEENSY 3.6 W/ HDRS K66 EVAL BRD)
pins: 0 0/MOSI1/RX1/TOUCH (io), 1 1/MISO1/TX1/TOUCH (io), 2 2/PWM (io), 3 3/PWM/CAN0TX/SCL2 (io), 4 4/PWM/CAN0RX/SDA2 (io), 5 5/PWM/TX1/MISO1 (io), 6 6/PWM (io), 7 7/PWM/RX3/MOSI0/SCL0 (io), 8 8/PWM/TX3/MISO0/SDA0 (io), 9 9/PWM/RX2/CS0 (io), 10 10/PWM/TX2/CS0 (io), 11 11/MOSI0 (io), 12 12/MISO0 (io), 13 13/SCK0 (io), 14 14/A0/PWM/SCK0 (io), 15 15/A1/CS0/TOUCH (io), 16 16/A2/PWM/SCL0/TOUCH (io), 17 17/A3/PWM/SDA0/TOUCH (io), 18 18/A4/SDA0/TOUCH (io), 19 19/A5/SCL0/TOUCH (io), 20 20/A6/PWM/CS0/SCK1 (io), 21 21/A7/PWM/CS0/MOSI1/RX1 (io), 22 22/A8/PWM/TOUCH (io), 23 23/A9/PWM/TOUCH (io), 24 (io), 25 (io), 26 26/SCL2/TX1 (io), 27 27/SCK0/RX1/SCK0 (io), 28 28/MOSI0 (io), 29 29/PWM/CAN0TX/TOUCH (io), 30 30/PWM/CAN0RX/TOUCH (io), 31 31/A12/RX4/CS1 (io), 32 32/A13/TX4/SCK1 (io), 33 33/A14/CAN1TX/SCL0/TX5 (io), 34 34/A15/CAN1RX/SDA0/RX5 (io), 35 35/A16/PWM (io), 36 36/A17/PWM (io), 37 37/A18/PWM/SCL1 (io), 38 38/A19/PWM/SDA1 (io), 39 39/A20 (io), 40 (io), 41 (io), 42 (io), 43 43/CS2 (io), 44 44/MOSI2 (io), 45 45/MISO2 (io), 46 46/SCK2 (io), 47 47/RX6/SCL0 (io), 48 48/TX6/SDA0 (io), 49 49/A23 (io), 50 50/A24 (io), 51 51/MISO2 (io), 52 52/MOSI2 (io), 53 53/SCK2 (io), 54 54/CS2 (io), 55 (io), 56 56/SDA3 (io), 57 56/SCL3 (io), 58 GND (power), 59 GND (power), 60 GND (power), 61 3V3 (power), 62 3V3(250MA_MAX) (power), 63 3V3 (power), 64 VIN (power), 65 AGND (power), 66 D-DD (io), 67 D-DC (io), 68 D-DE (io), 69 G (io), 70 A21/DAC0 (io), 71 A22/DAC1 (io)

## Teensy 4.1
designator teensy4.1, comment DEV-14058  (value not drawn)
MF: SparkFun Electronics; Availability: Unavailable; Price: None; SnapEDA_Link: https://www.snapeda.com/parts/DEV-14058/SparkFun%20Electronics/view-part/?ref=snap; Package: None; MP: DEV-14058
footprint DEV-16771 (TEENSY 4.1)
pins: 0 0/PWM/CRX2/CS1/RX1 (io), 1 1/PWM/CTX2/MISO1/TX1 (io), 2 2/PWM/OUT2 (io), 3 3/PWM/LRCLK2 (io), 4 4/PWM/BCLK2 (io), 5 5/PWM/IN2 (io), 6 6/PWM/OUT1D (io), 7 7/PWM/OUT1A/RX2 (io), 8 8/PWM/IN1/TX2 (io), 9 9/PWM/OUT1C (io), 10 10/PWM/MQSR/CS (io), 11 11/PWM/CTX1MOSI (io), 12 12/PWM/MQSL/MISO (io), 13 13/SCK (io), 14 14/A0/TX3/~{S}PDI~{F}OUT/PWM (io), 15 15/A1/RX3/~{S}PDI~{F}IN/PWM (io), 16 16/A2/RX4/SCL1 (io), 17 17/A3/TX4/SDA1 (io), 18 18/A4/SDA/PWM (io), 19 19/A5/SCL/PWM (io), 20 20/A6/TX5/LRCLK1 (io), 21 21/A7/RX5/BCLK1 (io), 22 22/A8/CTX1/PWM (io), 23 23/A9/CEX1/MCLK1/PWM (io), 24 24/PWM/SCL2/TX6/A10 (io), 25 25/PWM/SDA2/RX6/A11 (io), 26 26/MOSI1/A12 (io), 27 27/SCK1/A13 (io), 28 28/PWM/RX7 (io), 29 29/PWM/TX7 (io), 30 30/CRX3 (io), 31 31/CTX3 (io), 32 32/OUT1B (io), 33 33/MCLK2/PWM (io), 34 34/RX8 (io), 35 35/TX8 (io), 36 36/CS/PWM (io), 37 37/CS/PWM (io), 38 38/A14/CS1/IN1 (io), 39 39/A15/MISO1/OUT1A (io), 40 40/A16 (io), 41 41/A17 (io), 42 GND (power), 43 3V3(250MA_MAX) (power), 44 AGND (power), 45 VIN (power), 46 GND (power), 47 3V3 (power)

## TLP2270
designator *
footprint TLP2270 (SOIC, 8-Leads, Body 5.85x7.50mm, Pitch 1.27mm, IPC Medium Density)
pins: 1 ANODE_1, 2 CATHODE_1, 3 CATHODE_2, 4 ANODE_2, 5 GND, 6 VO2(OUTPUT_2), 7 VO1(OUTPUT_1), 8 VDD

## toogle switch
designator *
footprint toogle switch
pins: 1 NC, 2 VCC, 3 NO, 4 NC, 5 VCC, 6 NO

## ULN2803ADW
designator ULN2803ADW  (value not drawn)
pins: 1 1B, 2 2B, 3 3B, 4 4B, 5 5B, 6 6B, 7 7B, 8 8B, 9 GND (power), 10 COM, 11 8C, 12 7C, 13 6C, 14 5C, 15 4C, 16 3C, 17 2C, 18 1C

## USB-2
designator *
footprint USB2
pins: 1 USB1 5+, 2 USB1  Data-, 3 USB1 Data+, 4 USB1 GND, 5 USB2 5+, 6 USB2 Data-, 7 USB2 Data+, 8 USB2 GND